# Altium footprint library Connectors Power Barrel.PcbLib: 1 footprints
Each footprint in its own frame and in the unit in brackets; x right, y up, seen from the top. Pads: shape width x height; smd on the part's side, far side on the other; paste and mask are expansions set on the pad; w line width, h text height; cw(c..) or ccw(c..) is an arc to the next point about the centre after c.
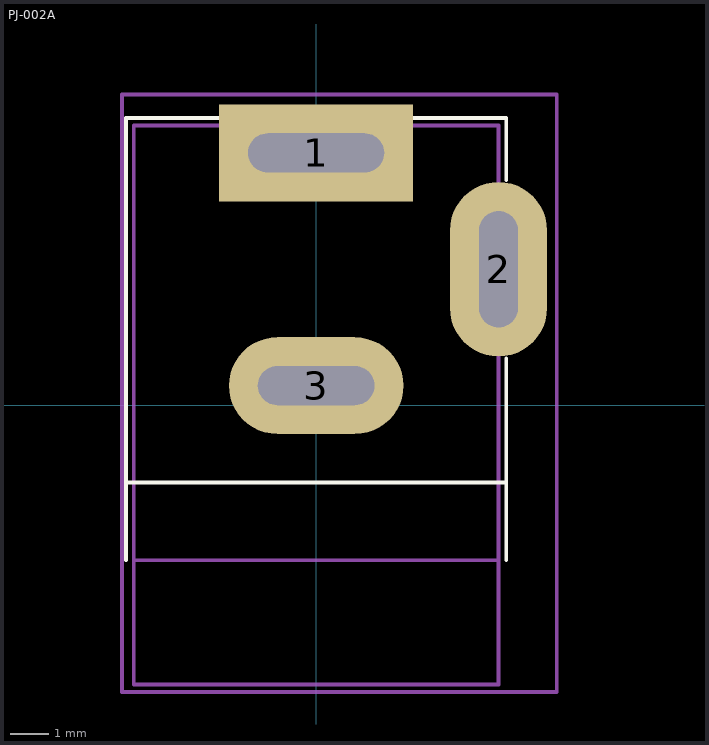
[diagram p0: the footprint, top view; thin cyan lines are the x and y axes]

## PJ-002A [mm]
height 11
pads (3):
  rect 5x2.5 hole 1 slot 3.5 at 0 deg unplated: 1(0,6.5)
  oval 2.5x4.5 hole 1 slot 3 at 90 deg unplated: 2(4.7,3.5)
  oval 4.5x2.5 hole 1 slot 3 at 0 deg unplated: 3(0,0.5)
Top Overlay:
  lines w0.1: -4.896,-4 -4.896,-2 ; -2.496,7.4 -4.896,7.4 -4.896,-2 ; 2.5,7.4 4.9,7.4 4.9,5.8 ; 4.9,-4 4.9,-2 ; 4.9,1.2 4.9,-2 ; -4.896,-2 4.9,-2
Top Package:
  lines w0.1: -4.7,-4 4.7,-4 ; -4.7,-7.2 -4.7,7.2 4.7,7.2 4.7,-7.2 -4.7,-7.2 ; -1.3,0.2 -1.3,0.71 1.4,0.71 1.4,0.2 -1.3,0.2 ; -1.3,6.19 1.4,6.19 1.4,6.7 -1.3,6.7 -1.3,6.19 ; 4.5,2.2 4.5,4.9 5.01,4.9 5.01,2.2 4.5,2.2
Top Border:
  lines w0.1: -0.498,-0.001 0.502,-0.001 ; 0.002,-0.501 0.002,0.499 ; -5,-7.4 -5,8 6.2,8 6.2,-7.4 -5,-7.4
3D body "PJ-002AH.stp": height 11.05, standoff -3.45, extent -4.7,-7.2 4.7,7.2